# Altium footprint library Transistor.PcbLib: 1 footprints
Each footprint in its own frame and in the unit in brackets; x right, y up, seen from the top. Pads: shape width x height; smd on the part's side, far side on the other; paste and mask are expansions set on the pad; w line width, h text height; cw(c..) or ccw(c..) is an arc to the next point about the centre after c.
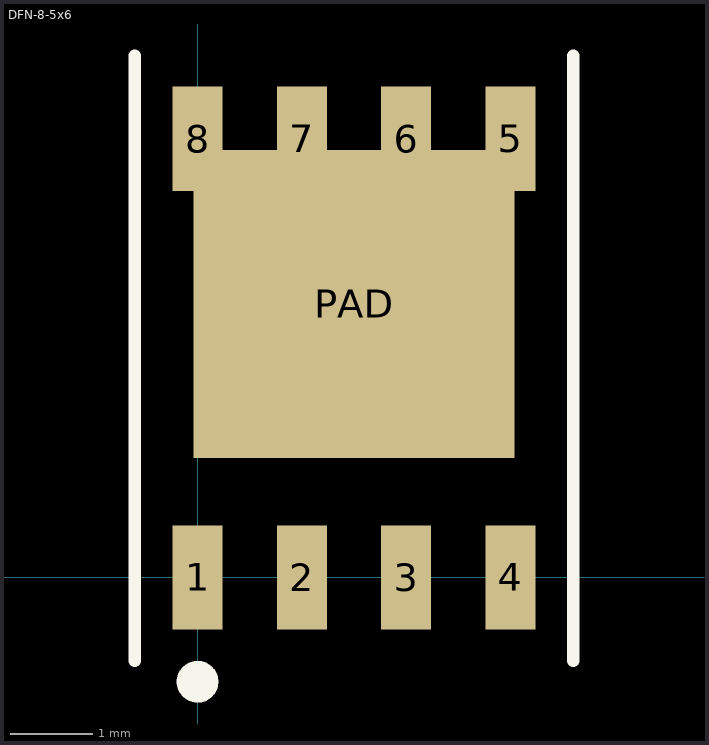
[diagram p0: the footprint, top view; thin cyan lines are the x and y axes]

## DFN-8-5x6 [mm] "Transistor SMD DFN-8 5x6 mm / SO-8FL / 98AON84257G"
height 0.95
pads (9):
  rect 0.61x1.27 smd: 1(0,0) 2(1.27,0) 3(2.54,0) 4(3.81,0) 5(3.81,5.34) 6(2.54,5.34) 7(1.27,5.34) 8(0,5.34)
  rect 3.91x3.75 smd: PAD(1.905,3.33)
Top Overlay:
  circle w0.254: c0,-1.27 r0.127
  lines w0.152: -0.762,-1.016 -0.762,6.35 ; 4.572,-1.016 4.572,6.35
3D body "SO-8FL.STEP": height 1.01, standoff 0.01, extent -0.695,-0.383 4.505,5.717